# Altium footprint library ACG525-CORE.PcbLib: 1 footprints
Each footprint in its own frame and in the unit in brackets; x right, y up, seen from the top. Pads: shape width x height; smd on the part's side, far side on the other; paste and mask are expansions set on the pad; w line width, h text height; cw(c..) or ccw(c..) is an arc to the next point about the centre after c.
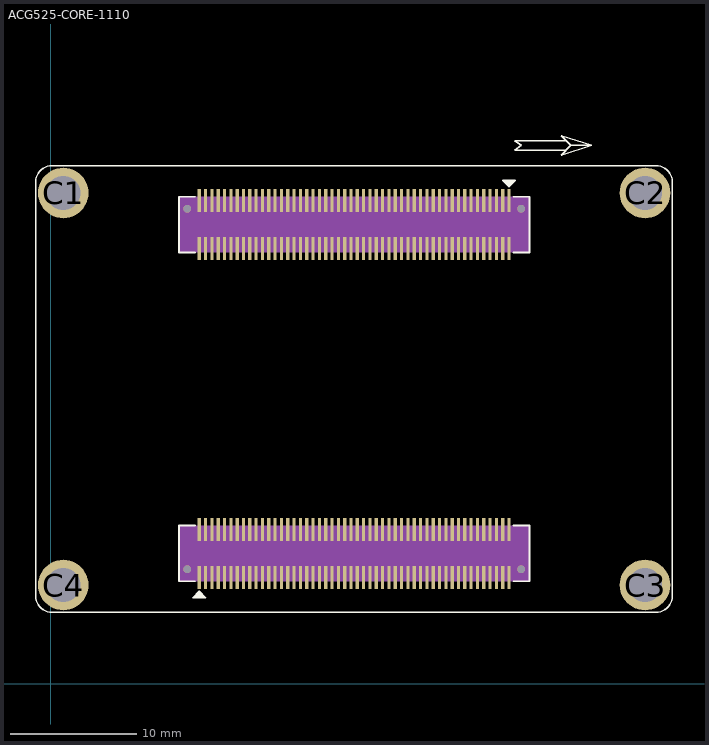
[diagram p0: the footprint, top view; thin cyan lines are the x and y axes]

## ACG525-CORE-1110 [mm]
pads (208):
  rect 0.25x1.8 smd: A1(11.753,8.387) A2(11.753,12.187) A3(12.253,8.387) A4(12.253,12.187) A5(12.753,8.387) A6(12.753,12.187) A7(13.253,8.387) A8(13.253,12.187) A9(13.753,8.387) A10(13.753,12.187) A11(14.253,8.387) A12(14.253,12.187) A13(14.753,8.387) A14(14.753,12.187) A15(15.253,8.387) A16(15.253,12.187) A17(15.753,8.387) A18(15.753,12.187) A19(16.253,8.387) A20(16.253,12.187) A21(16.753,8.387) A22(16.753,12.187) A23(17.253,8.387) A24(17.253,12.187) A25(17.753,8.387) A26(17.753,12.187) A27(18.253,8.387) A28(18.253,12.187) A29(18.753,8.387) A30(18.753,12.187) A31(19.253,8.387) A32(19.253,12.187) A33(19.753,8.387) A34(19.753,12.187) A35(20.253,8.387) A36(20.253,12.187) A37(20.753,8.387) A38(20.753,12.187) A39(21.253,8.387) A40(21.253,12.187) A41(21.753,8.387) A42(21.753,12.187) A43(22.253,8.387) A44(22.253,12.187) A45(22.753,8.387) A46(22.753,12.187) A47(23.253,8.387) A48(23.253,12.187) A49(23.753,8.387) A50(23.753,12.187) A51(24.253,8.387) A52(24.253,12.187) A53(24.753,8.387) A54(24.753,12.187) A55(25.253,8.387) A56(25.253,12.187) A57(25.753,8.387) A58(25.753,12.187) A59(26.253,8.387) A60(26.253,12.187) A61(26.753,8.387) A62(26.753,12.187) A63(27.253,8.387) A64(27.253,12.187) A65(27.753,8.387) A66(27.753,12.187) A67(28.253,8.387) A68(28.253,12.187) A69(28.753,8.387) A70(28.753,12.187) A71(29.253,8.387) A72(29.253,12.187) A73(29.753,8.387) A74(29.753,12.187) A75(30.253,8.387) A76(30.253,12.187) A77(30.753,8.387) A78(30.753,12.187) A79(31.253,8.387) A80(31.253,12.187) A81(31.753,8.387) A82(31.753,12.187) A83(32.253,8.387) A84(32.253,12.187) A85(32.753,8.387) A86(32.753,12.187) A87(33.253,8.387) A88(33.253,12.187) A89(33.753,8.387) A90(33.753,12.187) A91(34.253,8.387) A92(34.253,12.187) A93(34.753,8.387) A94(34.753,12.187) A95(35.253,8.387) A96(35.253,12.187) A97(35.753,8.387) A98(35.753,12.187) A99(36.253,8.387) A100(36.253,12.187) B1(36.253,38.187) B2(36.253,34.387) B3(35.753,38.187) B4(35.753,34.387) B5(35.253,38.187) B6(35.253,34.387) B7(34.753,38.187) B8(34.753,34.387) B9(34.253,38.187) B10(34.253,34.387) B11(33.753,38.187) B12(33.753,34.387) B13(33.253,38.187) B14(33.253,34.387) B15(32.753,38.187) B16(32.753,34.387) B17(32.253,38.187) B18(32.253,34.387) B19(31.753,38.187) B20(31.753,34.387) B21(31.253,38.187) B22(31.253,34.387) B23(30.753,38.187) B24(30.753,34.387) B25(30.253,38.187) B26(30.253,34.387) B27(29.753,38.187) B28(29.753,34.387) B29(29.253,38.187) B30(29.253,34.387) B31(28.753,38.187) B32(28.753,34.387) B33(28.253,38.187) B34(28.253,34.387) B35(27.753,38.187) B36(27.753,34.387) B37(27.253,38.187) B38(27.253,34.387) B39(26.753,38.187) B40(26.753,34.387) B41(26.253,38.187) B42(26.253,34.387) B43(25.753,38.187) B44(25.753,34.387) B45(25.253,38.187) B46(25.253,34.387) B47(24.753,38.187) B48(24.753,34.387) B49(24.253,38.187) B50(24.253,34.387) B51(23.753,38.187) B52(23.753,34.387) B53(23.253,38.187) B54(23.253,34.387) B55(22.753,38.187) B56(22.753,34.387) B57(22.253,38.187) B58(22.253,34.387) B59(21.753,38.187) B60(21.753,34.387) B61(21.253,38.187) B62(21.253,34.387) B63(20.753,38.187) B64(20.753,34.387) B65(20.253,38.187) B66(20.253,34.387) B67(19.753,38.187) B68(19.753,34.387) B69(19.253,38.187) B70(19.253,34.387) B71(18.753,38.187) B72(18.753,34.387) B73(18.253,38.187) B74(18.253,34.387) B75(17.753,38.187) B76(17.753,34.387) B77(17.253,38.187) B78(17.253,34.387) B79(16.753,38.187) B80(16.753,34.387) B81(16.253,38.187) B82(16.253,34.387) B83(15.753,38.187) B84(15.753,34.387) B85(15.253,38.187) B86(15.253,34.387) B87(14.753,38.187) B88(14.753,34.387) B89(14.253,38.187) B90(14.253,34.387) B91(13.753,38.187) B92(13.753,34.387) B93(13.253,38.187) B94(13.253,34.387) B95(12.753,38.187) B96(12.753,34.387) B97(12.253,38.187) B98(12.253,34.387) B99(11.753,38.187) B100(11.753,34.387)
  round 4 hole 2.7: C1(1.003,38.787) C2(47.003,38.787) C3(47.003,7.787) C4(1.003,7.787)
  round 0.6 hole 0.6 unplated: ""(10.803,9.037) ""(10.803,37.537) ""(37.203,9.037) ""(37.203,37.537)
Top Overlay:
  lines w0.102: 40.767,42.164 36.703,42.164 37.211,42.545 36.703,42.926 40.767,42.926 ; 41.148,42.545 42.799,42.545 ; 41.148,42.545 40.386,43.307 42.799,42.545 ; 41.148,42.545 40.386,41.783 42.799,42.545 ; -1.168,6.909 ccw(c0.102,6.909) 0.102,5.639 47.879,5.639 ccw(c47.879,6.909) 49.149,6.909 49.149,39.675 ccw(c47.879,39.675) 47.879,40.945 0.102,40.945 ccw(c0.102,39.675) -1.168,39.675 -1.168,6.909
  lines w0.127: 11.353,6.787 11.753,7.187 12.153,6.787 ; 11.453,6.787 11.753,7.087 12.053,6.787 ; 11.553,6.787 11.753,6.987 11.953,6.787 ; 11.753,6.787 11.753,7.287 ; 35.853,39.787 36.253,39.387 36.653,39.787 ; 35.953,39.787 36.253,39.487 36.553,39.787 ; 36.053,39.787 36.253,39.587 36.453,39.787 ; 36.253,39.787 36.253,39.287 ; 11.753,7.287 11.253,6.787 12.253,6.787 11.753,7.287 ; 36.253,39.287 35.753,39.787 36.753,39.787 36.253,39.287
  lines w0.152: 11.403,8.087 10.153,8.087 10.153,12.487 11.403,12.487 ; 11.403,34.087 10.153,34.087 10.153,38.487 11.403,38.487 ; 36.603,8.087 37.853,8.087 37.853,12.487 36.603,12.487 ; 36.603,34.087 37.853,34.087 37.853,38.487 36.603,38.487
Mechanical 5:
  dashed: 37.853,8.087 37.853,12.487 10.153,12.487 10.153,8.087
  dashed: 10.153,38.487 10.153,34.087 37.853,34.087 37.853,38.487
Top 3D Body:
  region: 37.853,8.087 37.853,12.487 10.153,12.487 10.153,8.087
  region: 10.153,38.487 10.153,34.087 37.853,34.087 37.853,38.487
3D body: height 3.81, standoff 0, extent 10.153,8.087 37.853,12.487
3D body: height 3.81, standoff 0, extent 10.153,34.087 37.853,38.487